# Altium footprint library LM337KVURG3.PcbLib: 1 footprints
Each footprint in its own frame and in the unit in brackets; x right, y up, seen from the top. Pads: shape width x height; smd on the part's side, far side on the other; paste and mask are expansions set on the pad; w line width, h text height; cw(c..) or ccw(c..) is an arc to the next point about the centre after c.
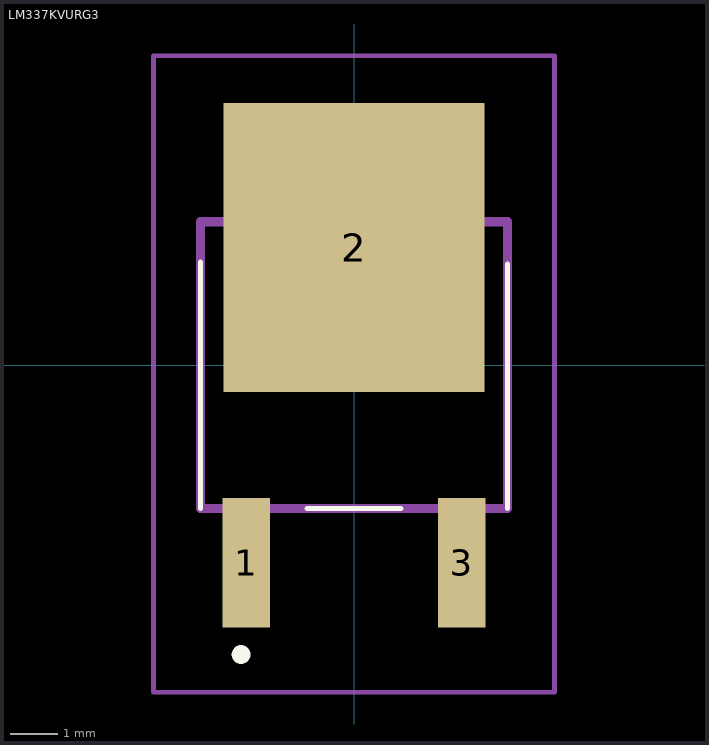
[diagram p0: the footprint, top view; thin cyan lines are the x and y axes]

## LM337KVURG3 [mm]
pads (3):
  rect 1x2.75 smd: 1(-2.29,-4.2) 3(2.29,-4.2)
  rect 5.55x6.15 smd: 2(0,2.5)
Top Overlay:
  lines w0.1: -3.263,-3.047 -3.263,2.197 ; -1,-3.047 1,-3.047 ; 3.263,-3.047 3.263,2.15
  lines w0.2: -2.4,-6.25 -2.4,-6.25 ; -2.4,-6.25 ccw(c-2.4,-6.15) -2.4,-6.05 ; -2.4,-6.25 cw(c-2.4,-6.15) -2.4,-6.05 ; -2.4,-6.05 -2.4,-6.05
Mechanical 15:
  lines w0.2: -3.263,-3.047 3.263,-3.047 3.263,3.047 -3.263,3.047 -3.263,-3.047
Mechanical 20:
  lines w0.1: -4.263,-6.95 4.263,-6.95 4.263,6.575 -4.263,6.575 -4.263,-6.95